# EAGLE library part 10118241-001RLF (library pimoroni-connectors)
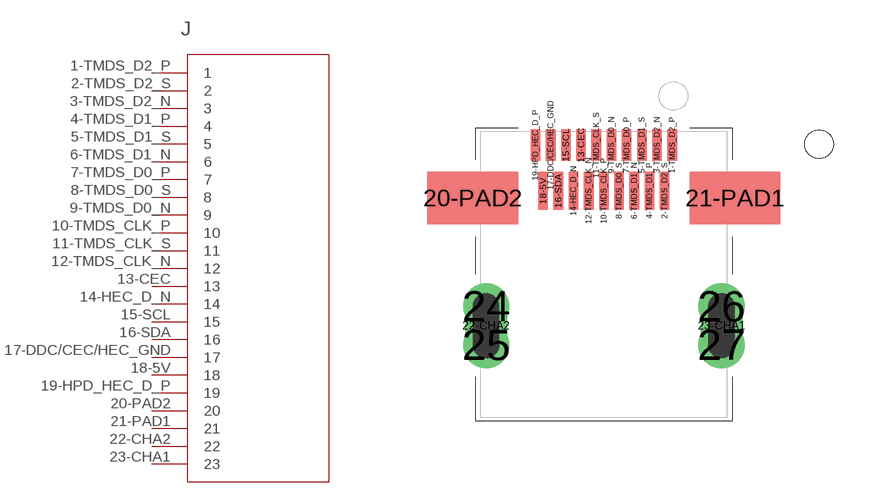
[diagram p29: symbol with the pads of CONN_10118241-001RLF_AMP; footprint CONN_10118241-001RLF_AMP]

Designator prefix J

## 10118241-001RLF (COPYRIGHT: Copyright (C) 2024 Ultra Librarian. All rights reserved.; MANUFACTURER_PART_NUMBER: 10118241-001RLF; MFR_NAME: Amphenol ICC)  [CONN_10118241-001RLF_AMP]
1-TMDS_D2_P  1  in
2-TMDS_D2_S  2  pas
3-TMDS_D2_N  3  in
4-TMDS_D1_P  4  in
5-TMDS_D1_S  5  pas
6-TMDS_D1_N  6  in
7-TMDS_D0_P  7  pas
8-TMDS_D0_S  8  pas
9-TMDS_D0_N  9  pas
10-TMDS_CLK_P  10  pas
11-TMDS_CLK_S  11  pas
12-TMDS_CLK_N  12  pas
13-CEC  13  pas
14-HEC_D_N  14  pas
15-SCL  15  pas
16-SDA  16  pas
17-DDC/CEC/HEC_GND  17  pas
18-5V  18  pas
19-HPD_HEC_D_P  19  pas
20-PAD2  20  pas
21-PAD1  21  pas
22-CHA2  22  pas
23-CHA1  23  pas

## Footprint CONN_10118241-001RLF_AMP (pad centres in mm)
smd 0.254 x 0.838: 1-TMDS_D2_P 1.8,3.409; 3-TMDS_D2_N 1.4,3.409; 5-TMDS_D1_S 1,3.409; 7-TMDS_D0_P 0.6,3.409; 9-TMDS_D0_N 0.2,3.409; 11-TMDS_CLK_S -0.2,3.409; 13-CEC -0.6,3.409; 15-SCL -1,3.409; 17-DDC/CEC/HEC_GND -1.4,3.409; 19-HPD_HEC_D_P -1.8,3.409
smd 0.254 x 0.991: 2-TMDS_D2_S 1.6,2.204; 4-TMDS_D1_P 1.2,2.204; 6-TMDS_D1_N 0.8,2.204; 8-TMDS_D0_S 0.4,2.204; 10-TMDS_CLK_P 0,2.204; 12-TMDS_CLK_N -0.4,2.204; 14-HEC_D_N -0.8,2.204; 16-SDA -1.2,2.204; 18-5V -1.6,2.204
smd 2.388 x 1.372: 20-PAD2 -3.45,2.014; 21-PAD1 3.45,2.014
drill 0.025 pad 1.118 long: 22-CHA2 -3.099,-1.346; 23-CHA1 3.099,-1.346
drill 0.711 pad 0.711: 24 -3.099,-0.838; 25 -3.099,-1.854; 26 3.099,-0.838; 27 3.099,-1.854